# Altium schematic symbol library 691 253 610 0xx.SchLib: 2 symbols
Pins are listed as number, name and electrical type; pins without a type are passive.

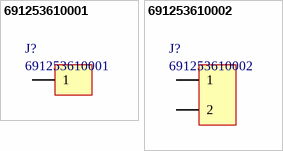
[diagram p0: symbols 691253610001 to 691253610002]

## 691253610001
designator J?
Horizontal Cable Entry with Rising Cage Clamp, Serie 2536 - 10.16mm; Manufacturer: Wurth Elektronik; ComponentLink1 Description: Manufacturer; ComponentLink2 Description: Datasheet; NoPins: 1; ComponentLink1 URL: http://www.we-online.com; ComponentLink2 URL: http://katalog.we-online.de/em/datasheet/6912536100xx.pdf; Created By: Baojun Chen; Created Date: Dec.2015; PartNo: 691253610001
footprint 691253610001 (Serie 2536 - 10.16 mm _ 1 pins)
pins: 1

## 691253610002
designator J?
Horizontal Cable Entry with Rising Cage Clamp, Serie 2536 - 10.16mm; Manufacturer: Wurth Elektronik; ComponentLink1 Description: Manufacturer; ComponentLink2 Description: Datasheet; NoPins: 2; ComponentLink1 URL: http://www.we-online.com; ComponentLink2 URL: http://katalog.we-online.de/em/datasheet/6912536100xx.pdf; Created By: Baojun Chen; Created Date: 28.Aug.2015; PartNo: 691253610002
footprint 691253610002 (Serie 2536 - 10.16 mm _ 2 pins)
pins: 1, 2